# EAGLE library part ADM202E (library custom)
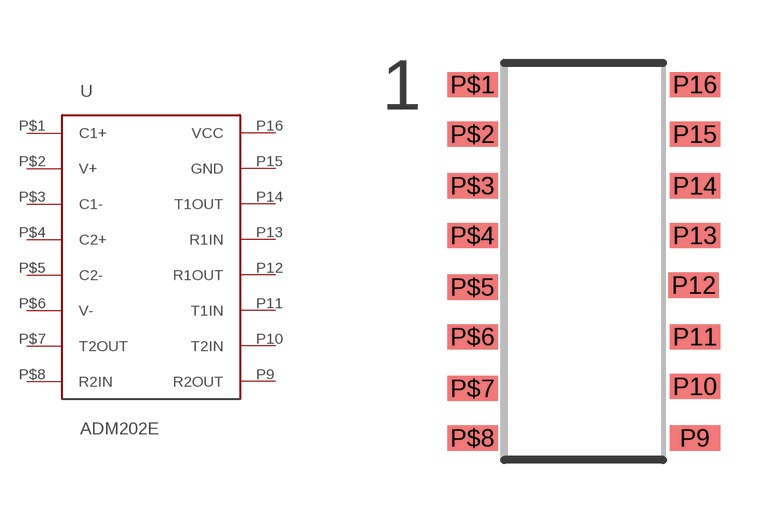
[diagram p1: symbol with the pads of SOIC_16N; footprint SOIC_16N]

Designator prefix -

## ADM202E  [SOIC_16N]
P9  R2OUT
P10  T2IN
P11  T1IN
P12  R1OUT
P13  R1IN
P14  T1OUT
P15  GND
P16  VCC
P$1  C1+
P$2  V+
P$3  C1-
P$4  C2+
P$5  C2-
P$6  V-
P$7  T2OUT
P$8  R2IN

## Footprint SOIC_16N (pad centres in mm)
smd 1.27 x 0.635: P9 2.8,-4.45; P10 2.8,-3.15; P11 2.8,-1.9; P12 2.77,-0.6; P13 2.8,0.65; P14 2.8,1.9; P15 2.8,3.2; P16 2.8,4.45; P$1 -2.8,4.45; P$2 -2.8,3.2; P$3 -2.8,1.9; P$4 -2.8,0.65; P$5 -2.8,-0.65; P$6 -2.8,-1.9; P$7 -2.8,-3.2; P$8 -2.8,-4.45